# Altium integrated library Motorola Converter Digital to Analog.IntLib: 14 symbols
Pins are listed as number, name and electrical type; pins without a type are passive.

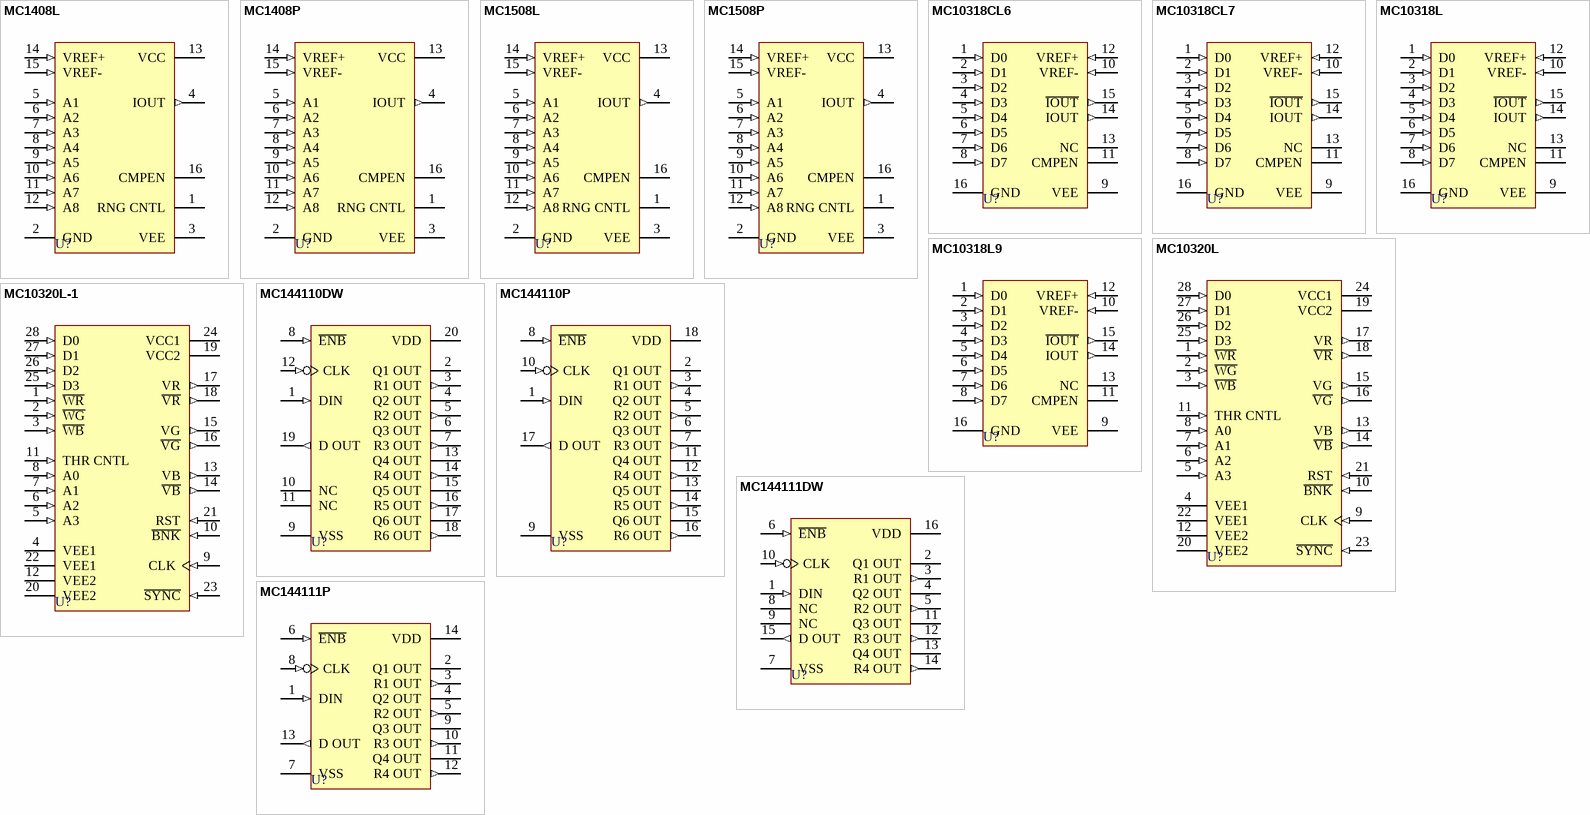
[diagram p0: symbols MC1408L to MC144111P]

## MC1408L
designator U?
8-Bit Multiplying Digital-to-Analog Converter; Published: 17-Jul-2002; LatestRevisionDate: 06-Jun-2005; LatestRevisionNote: Stylized 3D Model Added.; DatasheetVersion: 1988; PackageReference: 620-10; Publisher: Altium Limited; PackageDescription: DIP; 16 Leads; Row Spacing 7.62 mm; Pitch 2.54 mm
footprint 620-10 (DIP; 16 Leads; Row Spacing 7.62 mm; Pitch 2.54 mm)
3D model 620-10 (DIP; 16 Leads; Row Spacing 7.62 mm; Pitch 2.54 mm)
pins: 1 RNG CNTL, 2 GND (power), 3 VEE (power), 4 IOUT (out), 5 A1 (in), 6 A2 (in), 7 A3 (in), 8 A4 (in), 9 A5 (in), 10 A6 (in), 11 A7 (in), 12 A8 (in), 13 VCC (power), 14 VREF+ (in), 15 VREF- (in), 16 CMPEN

## MC1408P
designator U?
8-Bit Multiplying Digital-to-Analog Converter; Published: 17-Jul-2002; LatestRevisionDate: 06-Jun-2005; LatestRevisionNote: Stylized 3D Model Added.; DatasheetVersion: 1988; PackageReference: 648-06; Publisher: Altium Limited; PackageDescription: DIP; 16 Leads; Row Spacing 7.62 mm; Pitch 2.54 mm
footprint 648-06 (DIP; 16 Leads; Row Spacing 7.62 mm; Pitch 2.54 mm)
3D model 648-06 (DIP; 16 Leads; Row Spacing 7.62 mm; Pitch 2.54 mm)
pins: 1 RNG CNTL, 2 GND (power), 3 VEE (power), 4 IOUT (out), 5 A1 (in), 6 A2 (in), 7 A3 (in), 8 A4 (in), 9 A5 (in), 10 A6 (in), 11 A7 (in), 12 A8 (in), 13 VCC (power), 14 VREF+ (in), 15 VREF- (in), 16 CMPEN

## MC1508L
designator U?
8-Bit Multiplying Digital-to-Analog Converter; Published: 17-Jul-2002; LatestRevisionDate: 06-Jun-2005; LatestRevisionNote: Stylized 3D Model Added.; DatasheetVersion: 1988; PackageReference: 620-10; Publisher: Altium Limited; PackageDescription: DIP; 16 Leads; Row Spacing 7.62 mm; Pitch 2.54 mm
footprint 620-10 (DIP; 16 Leads; Row Spacing 7.62 mm; Pitch 2.54 mm)
3D model 620-10 (DIP; 16 Leads; Row Spacing 7.62 mm; Pitch 2.54 mm)
pins: 1 RNG CNTL, 2 GND (power), 3 VEE (power), 4 IOUT (out), 5 A1 (in), 6 A2 (in), 7 A3 (in), 8 A4 (in), 9 A5 (in), 10 A6 (in), 11 A7 (in), 12 A8 (in), 13 VCC (power), 14 VREF+ (in), 15 VREF- (in), 16 CMPEN

## MC1508P
designator U?
8-Bit Multiplying Digital-to-Analog Converter; Published: 17-Jul-2002; LatestRevisionDate: 06-Jun-2005; LatestRevisionNote: Stylized 3D Model Added.; DatasheetVersion: 1988; PackageReference: 648-06; Publisher: Altium Limited; PackageDescription: DIP; 16 Leads; Row Spacing 7.62 mm; Pitch 2.54 mm
footprint 648-06 (DIP; 16 Leads; Row Spacing 7.62 mm; Pitch 2.54 mm)
3D model 648-06 (DIP; 16 Leads; Row Spacing 7.62 mm; Pitch 2.54 mm)
pins: 1 RNG CNTL, 2 GND (power), 3 VEE (power), 4 IOUT (out), 5 A1 (in), 6 A2 (in), 7 A3 (in), 8 A4 (in), 9 A5 (in), 10 A6 (in), 11 A7 (in), 12 A8 (in), 13 VCC (power), 14 VREF+ (in), 15 VREF- (in), 16 CMPEN

## MC10318CL6
designator U?
High-Speed 8-Bit D/A Converter; Published: 17-Jul-2002; LatestRevisionDate: 06-Jun-2005; LatestRevisionNote: Stylized 3D Model Added.; DatasheetVersion: 1988; PackageReference: 620-10; Publisher: Altium Limited; PackageDescription: DIP; 16 Leads; Row Spacing 7.62 mm; Pitch 2.54 mm
footprint 620-10 (DIP; 16 Leads; Row Spacing 7.62 mm; Pitch 2.54 mm)
3D model 620-10 (DIP; 16 Leads; Row Spacing 7.62 mm; Pitch 2.54 mm)
pins: 1 D0 (in), 2 D1 (in), 3 D2 (in), 4 D3 (in), 5 D4 (in), 6 D5 (in), 7 D6 (in), 8 D7 (in), 9 VEE (power), 10 VREF- (in), 11 CMPEN, 12 VREF+ (in), 13 NC, 14 IOUT (out), 15 ~{IOUT} (out), 16 GND (power)

## MC10318CL7
designator U?
High-Speed 8-Bit D/A Converter; Published: 17-Jul-2002; LatestRevisionDate: 06-Jun-2005; LatestRevisionNote: Stylized 3D Model Added.; DatasheetVersion: 1988; PackageReference: 620-10; Publisher: Altium Limited; PackageDescription: DIP; 16 Leads; Row Spacing 7.62 mm; Pitch 2.54 mm
footprint 620-10 (DIP; 16 Leads; Row Spacing 7.62 mm; Pitch 2.54 mm)
3D model 620-10 (DIP; 16 Leads; Row Spacing 7.62 mm; Pitch 2.54 mm)
pins: 1 D0 (in), 2 D1 (in), 3 D2 (in), 4 D3 (in), 5 D4 (in), 6 D5 (in), 7 D6 (in), 8 D7 (in), 9 VEE (power), 10 VREF- (in), 11 CMPEN, 12 VREF+ (in), 13 NC, 14 IOUT (out), 15 ~{IOUT} (out), 16 GND (power)

## MC10318L
designator U?
High-Speed 8-Bit D/A Converter; Published: 17-Jul-2002; LatestRevisionDate: 06-Jun-2005; LatestRevisionNote: Stylized 3D Model Added.; DatasheetVersion: 1988; PackageReference: 690-13; Publisher: Altium Limited; PackageDescription: DIP; 16 Leads; Row Spacing 7.62 mm; Pitch 2.54 mm
footprint 690-13 (DIP; 16 Leads; Row Spacing 7.62 mm; Pitch 2.54 mm)
3D model 690-13 (DIP; 16 Leads; Row Spacing 7.62 mm; Pitch 2.54 mm)
pins: 1 D0 (in), 2 D1 (in), 3 D2 (in), 4 D3 (in), 5 D4 (in), 6 D5 (in), 7 D6 (in), 8 D7 (in), 9 VEE (power), 10 VREF- (in), 11 CMPEN, 12 VREF+ (in), 13 NC, 14 IOUT (out), 15 ~{IOUT} (out), 16 GND (power)

## MC10318L9
designator U?
High-Speed 8-Bit D/A Converter; Published: 17-Jul-2002; LatestRevisionDate: 06-Jun-2005; LatestRevisionNote: Stylized 3D Model Added.; DatasheetVersion: 1988; PackageReference: 690-13; Publisher: Altium Limited; PackageDescription: DIP; 16 Leads; Row Spacing 7.62 mm; Pitch 2.54 mm
footprint 690-13 (DIP; 16 Leads; Row Spacing 7.62 mm; Pitch 2.54 mm)
3D model 690-13 (DIP; 16 Leads; Row Spacing 7.62 mm; Pitch 2.54 mm)
pins: 1 D0 (in), 2 D1 (in), 3 D2 (in), 4 D3 (in), 5 D4 (in), 6 D5 (in), 7 D6 (in), 8 D7 (in), 9 VEE (power), 10 VREF- (in), 11 CMPEN, 12 VREF+ (in), 13 NC, 14 IOUT (out), 15 ~{IOUT} (out), 16 GND (power)

## MC10320L
designator U?
Triple 4-Bit Color Palette Video DAC; Published: 17-Jul-2002; LatestRevisionDate: 06-Jun-2005; LatestRevisionNote: Stylized 3D Model Added.; DatasheetVersion: 1988; PackageReference: 733-04; Publisher: Altium Limited; PackageDescription: DIP; 28 Leads; Row Spacing 15.24 mm; Pitch 2.54 mm
footprint 733-04 (DIP; 28 Leads; Row Spacing 15.24 mm; Pitch 2.54 mm)
3D model 733-04 (DIP; 28 Leads; Row Spacing 15.24 mm; Pitch 2.54 mm)
pins: 1 ~{WR} (in), 2 ~{WG} (in), 3 ~{WB} (in), 4 VEE1 (power), 5 A3 (in), 6 A2 (in), 7 A1 (in), 8 A0 (in), 9 CLK (in), 10 ~{BNK} (in), 11 THR CNTL (in), 12 VEE2 (power), 13 VB (out), 14 ~{VB} (out), 15 VG (out), 16 ~{VG} (out), 17 VR (out), 18 ~{VR} (out), 19 VCC2 (power), 20 VEE2 (power), 21 RST (in), 22 VEE1 (power), 23 ~{SYNC} (in), 24 VCC1 (power), 25 D3 (in), 26 D2 (in), 27 D1 (in), 28 D0 (in)

## MC10320L-1
designator U?
Triple 4-Bit Color Palette Video DAC; Published: 17-Jul-2002; LatestRevisionDate: 06-Jun-2005; LatestRevisionNote: Stylized 3D Model Added.; DatasheetVersion: 1988; PackageReference: 733-04; Publisher: Altium Limited; PackageDescription: DIP; 28 Leads; Row Spacing 15.24 mm; Pitch 2.54 mm
footprint 733-04 (DIP; 28 Leads; Row Spacing 15.24 mm; Pitch 2.54 mm)
3D model 733-04 (DIP; 28 Leads; Row Spacing 15.24 mm; Pitch 2.54 mm)
pins: 1 ~{WR} (in), 2 ~{WG} (in), 3 ~{WB} (in), 4 VEE1 (power), 5 A3 (in), 6 A2 (in), 7 A1 (in), 8 A0 (in), 9 CLK (in), 10 ~{BNK} (in), 11 THR CNTL (in), 12 VEE2 (power), 13 VB (out), 14 ~{VB} (out), 15 VG (out), 16 ~{VG} (out), 17 VR (out), 18 ~{VR} (out), 19 VCC2 (power), 20 VEE2 (power), 21 RST (in), 22 VEE1 (power), 23 ~{SYNC} (in), 24 VCC1 (power), 25 D3 (in), 26 D2 (in), 27 D1 (in), 28 D0 (in)

## MC144110DW
designator U?
Digital-to-Analog Converter with Serial Interface; Published: 28-Feb-2003; LatestRevisionDate: 13-Apr-2006; LatestRevisionNote: IPC-7351 Footprint Added.; DatasheetVersion: Dec-1998, Rev. 1; PackageReference: 751D-04; Publisher: Altium Limited; PackageDescription: 20-Pin Small Outline Integrated Circuit 1.27 mm Pitch
footprint 751D-04_N (SOIC, 20-Leads, Body 12.8x7.5mm, Pitch 1.27mm, IPC Medium Density)
footprint 751D-04_L (SOIC, 20-Leads, Body 12.8x7.5mm, Pitch 1.27mm, IPC High Density)
footprint 751D-04_M (SOIC, 20-Leads, Body 12.8x7.5mm, Pitch 1.27mm, IPC Low Density)
3D model 751D-04 (20-Pin Small Outline Integrated Circuit 1.27 mm Pitch)
pins: 1 DIN (in), 2 Q1 OUT (oe), 3 R1 OUT (out), 4 Q2 OUT (oe), 5 R2 OUT (out), 6 Q3 OUT (oe), 7 R3 OUT (out), 8 ~{ENB} (in), 9 VSS (power), 10 NC, 11 NC, 12 CLK (in), 13 Q4 OUT (oe), 14 R4 OUT (out), 15 Q5 OUT (oe), 16 R5 OUT (out), 17 Q6 OUT (oe), 18 R6 OUT (out), 19 D OUT (out), 20 VDD (power)

## MC144110P
designator U?
Digital-to-Analog Converter with Serial Interface; Published: 28-Feb-2003; LatestRevisionDate: 06-Jun-2005; LatestRevisionNote: Stylized 3D Model Added.; DatasheetVersion: Dec-1998, Rev. 1; PackageReference: 707-02; Publisher: Altium Limited; PackageDescription: DIP; 18 Leads; Row Spacing 7.62 mm; Pitch 2.54 mm
footprint 707-02 (DIP; 18 Leads; Row Spacing 7.62 mm; Pitch 2.54 mm)
3D model 707-02 (DIP; 18 Leads; Row Spacing 7.62 mm; Pitch 2.54 mm)
pins: 1 DIN (in), 2 Q1 OUT (oe), 3 R1 OUT (out), 4 Q2 OUT (oe), 5 R2 OUT (out), 6 Q3 OUT (oe), 7 R3 OUT (out), 8 ~{ENB} (in), 9 VSS (power), 10 CLK (in), 11 Q4 OUT (oe), 12 R4 OUT (out), 13 Q5 OUT (oe), 14 R5 OUT (out), 15 Q6 OUT (oe), 16 R6 OUT (out), 17 D OUT (out), 18 VDD (power)

## MC144111DW
designator U?
Digital-to-Analog Converter with Serial Interface; Published: 28-Feb-2003; LatestRevisionDate: 13-Apr-2006; LatestRevisionNote: IPC-7351 Footprint Added.; DatasheetVersion: Dec-1998, Rev. 1; PackageVersion: 1996; PackageReference: 751G-02; Publisher: Altium Limited; PackageDescription: 16-Pin Small Outline Integrated Circuit 1.27 mm Pitch
footprint 751G-02_N (SOIC, 16-Leads, Body 10.3x7.5mm, Pitch 1.27mm, IPC Medium Density)
footprint 751G-02_L (SOIC, 16-Leads, Body 10.3x7.5mm, Pitch 1.27mm, IPC High Density)
footprint 751G-02_M (SOIC, 16-Leads, Body 10.3x7.5mm, Pitch 1.27mm, IPC Low Density)
3D model 751G-02 (16-Pin Small Outline Integrated Circuit 1.27 mm Pitch)
pins: 1 DIN (in), 2 Q1 OUT (oe), 3 R1 OUT (out), 4 Q2 OUT (oe), 5 R2 OUT (out), 6 ~{ENB} (in), 7 VSS (power), 8 NC, 9 NC, 10 CLK (in), 11 Q3 OUT (oe), 12 R3 OUT (out), 13 Q4 OUT (oe), 14 R4 OUT (out), 15 D OUT (out), 16 VDD (power)

## MC144111P
designator U?
Digital-to-Analog Converter with Serial Interface; Published: 28-Feb-2003; LatestRevisionDate: 06-Jun-2005; LatestRevisionNote: Stylized 3D Model Added.; DatasheetVersion: Dec-1998, Rev. 1; PackageVersion: 1997; PackageReference: 646-06; Publisher: Altium Limited; PackageDescription: DIP; 14 Leads; Row Spacing 7.62 mm; Pitch 2.54 mm
footprint 646-06 (DIP; 14 Leads; Row Spacing 7.62 mm; Pitch 2.54 mm)
3D model 646-06 (DIP; 14 Leads; Row Spacing 7.62 mm; Pitch 2.54 mm)
pins: 1 DIN (in), 2 Q1 OUT (oe), 3 R1 OUT (out), 4 Q2 OUT (oe), 5 R2 OUT (out), 6 ~{ENB} (in), 7 VSS (power), 8 CLK (in), 9 Q3 OUT (oe), 10 R3 OUT (out), 11 Q4 OUT (oe), 12 R4 OUT (out), 13 D OUT (out), 14 VDD (power)